# Altium schematic symbol library 640456-3.SchLib: 1 symbol
Pins are listed as number, name and electrical type; pins without a type are passive.

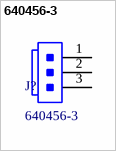
[diagram p0: symbol 640456-3]

## 640456-3
designator J?
CONN HEADER VERT 3POS 2.54MM; MFR: TE Connectivity AMP Connectors; No. of Positions: 3; No. of Rows: 1; PN: 640456-3; ComponentLink1Description: Datasheet; ComponentLink1URL: https://www.te.com/commerce/DocumentDelivery/DDEController?Action=srchrtrv&DocNm=640456&DocType=Customer+Drawing&DocLang=English; Supplier 1: Digi-Key; Supplier Part Number 1: A19470-ND
footprint TE_640456-3
pins: 1, 2, 3